# Altium integrated library SAMTEC-SQW-108-01-X-D.IntLib: 1 symbol
Pins are listed as number, name and electrical type; pins without a type are passive.

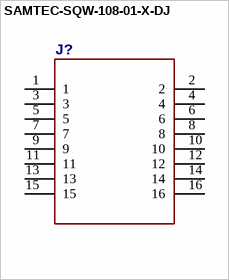
[diagram p0: symbol SAMTEC-SQW-108-01-X-DJ]

## SAMTEC-SQW-108-01-X-DJ
designator J?
GateName_1: A; SymbolName_1: SAMTEC-SQW-108-01-X-DA; DeviceName: J; DeviceSetName: SAMTEC-SQW-108-01-X-D; LibraryName: SAMTEC-SQW-108-01-X-D; Package: SAMTEC-SQW-108-01-X-D
footprint SAMTEC-SQW-108-01-X-D
pins: 1, 2, 3, 4, 5, 6, 7, 8, 9, 10, 11, 12, 13, 14, 15, 16